# EAGLE library part 74AVC8T245 (library Traficon)
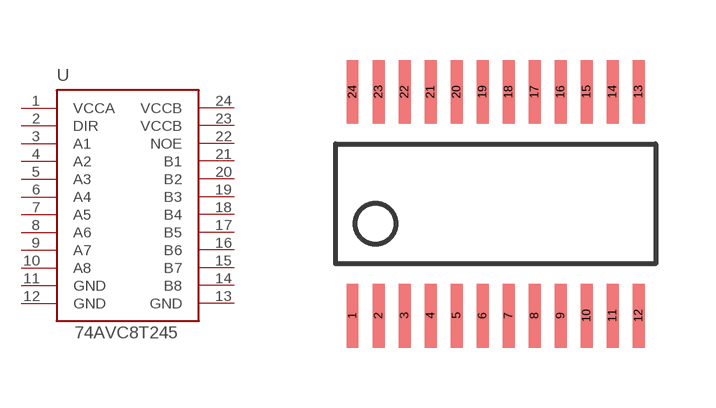
[diagram p247: symbol with the pads of TSSOP24; footprint TSSOP24]

Designator prefix U

## 74AVC8T245  [TSSOP24]
1  VCCA
2  DIR
3  A1
4  A2
5  A3
6  A4
7  A5
8  A6
9  A7
10  A8
11  GND
12  GND
13  GND
14  B8
15  B7
16  B6
17  B5
18  B4
19  B3
20  B2
21  B1
22  NOE
23  VCCB
24  VCCB

## Footprint TSSOP24 (pad centres in mm)
smd 0.3 x 1.6: 1 -3.575,-2.8; 2 -2.925,-2.8; 3 -2.275,-2.8; 4 -1.625,-2.8; 5 -0.975,-2.8; 6 -0.325,-2.8; 7 0.325,-2.8; 8 0.975,-2.8; 9 1.625,-2.8; 10 2.275,-2.8; 11 2.925,-2.8; 12 3.575,-2.8; 13 3.575,2.8; 14 2.925,2.8; 15 2.275,2.8; 16 1.625,2.8; 17 0.975,2.8; 18 0.325,2.8; 19 -0.325,2.8; 20 -0.975,2.8; 21 -1.625,2.8; 22 -2.275,2.8; 23 -2.925,2.8; 24 -3.575,2.8